# Altium schematic symbol library Converter_DCDC.SchLib: 544 symbols (part 6 of 6)
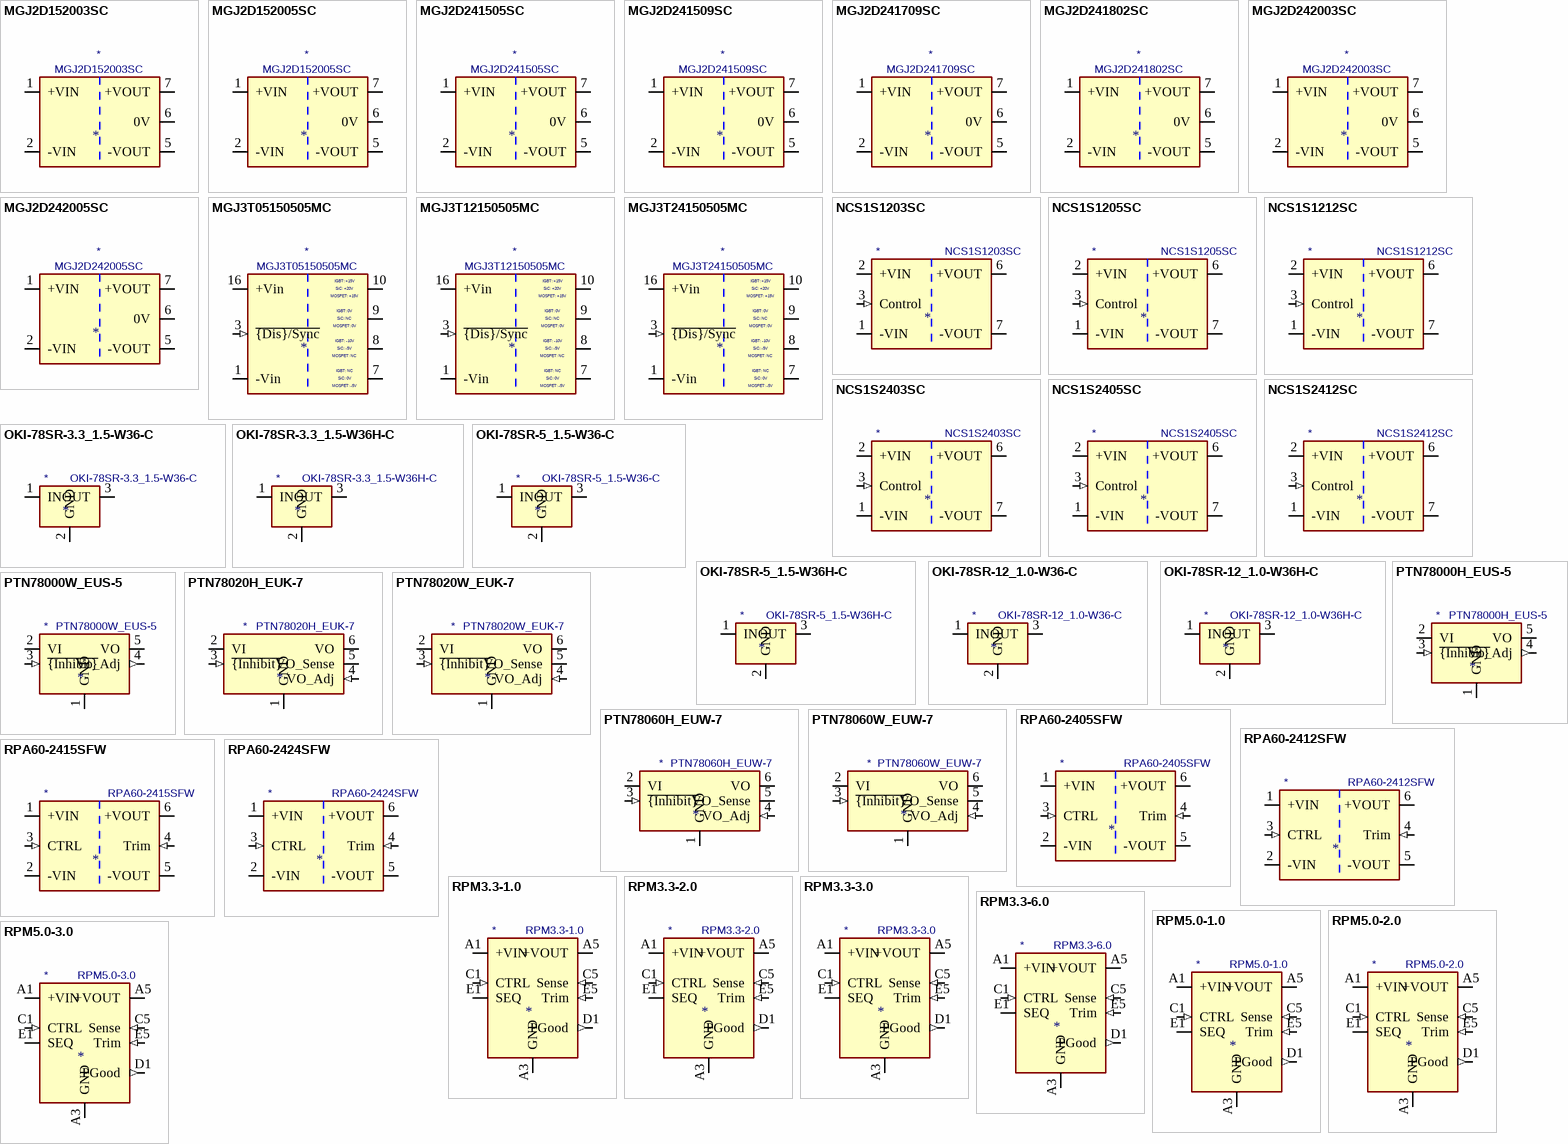
[diagram p18: symbols MGJ2D152003SC to RPM5.0-3.0]

## PTN78060H_EUW-7
designator *  value PTN78060H_EUW-7
ki_keywords: texas dc-dc converter step down buck; ki_description: 3A non-isolated switching regulator power module, 7-36V input voltage, 11.85-22V output voltage, EUW-7; ki_fp_filters: Texas*EUW*R?PDSS?T7*; Footprint: Module:Texas_EUW_R-PDSS-T7_THT; Supplier: https://www.ti.com/lit/ds/symlink/ptn78060w.pdf
footprint Texas_EUW_R-PDSS-T7_THT
pins: 1 GND (power), 2 VI (power), 3 ~{{Inhibit}} (in), 4 VO_Adj (in), 5 VO_Sense (power), 6 VO (power), 7 GND hidden

## PTN78060W_EUW-7
designator *  value PTN78060W_EUW-7
ki_keywords: texas dc-dc converter step down buck; ki_description: 3A non-isolated switching regulator power module, 7-36V input voltage, 2.5-12.6V output voltage, EUW-7; ki_fp_filters: Texas*EUW*R?PDSS?T7*; Footprint: Module:Texas_EUW_R-PDSS-T7_THT; Supplier: https://www.ti.com/lit/ds/symlink/ptn78060w.pdf
footprint Texas_EUW_R-PDSS-T7_THT
pins: 1 GND (power), 2 VI (power), 3 ~{{Inhibit}} (in), 4 VO_Adj (in), 5 VO_Sense (power), 6 VO (power), 7 GND hidden

## RPA60-2405SFW
designator *  value RPA60-2405SFW
ki_keywords: isolated isolation dc-dc converter step-down; ki_description: Isolated 60W 4:1 input DC/DC converter module, 9-36V input voltage, 5V output voltage, DIP; ki_fp_filters: Converter*DCDC*RECOM*RPA60?xxxxSFW*; Footprint: Converter_DCDC:Converter_DCDC_RECOM_RPA60-xxxxSFW; Supplier: https://recom-power.com/pdf/Powerline_DC-DC/RPA60-FW.pdf
footprint Converter_DCDC_RECOM_RPA60-xxxxSFW
pins: 1 +VIN (power), 2 -VIN (power), 3 CTRL (in), 4 Trim (in), 5 -VOUT (power), 6 +VOUT (power)

## RPA60-2412SFW
designator *  value RPA60-2412SFW
ki_keywords: isolated isolation dc-dc converter step-down; ki_description: Isolated 60W 4:1 input DC/DC converter module, 9-36V input voltage, 12V output voltage, DIP; ki_fp_filters: Converter*DCDC*RECOM*RPA60?xxxxSFW*; Footprint: Converter_DCDC:Converter_DCDC_RECOM_RPA60-xxxxSFW; Supplier: https://recom-power.com/pdf/Powerline_DC-DC/RPA60-FW.pdf
footprint Converter_DCDC_RECOM_RPA60-xxxxSFW
pins: 1 +VIN (power), 2 -VIN (power), 3 CTRL (in), 4 Trim (in), 5 -VOUT (power), 6 +VOUT (power)

## RPA60-2415SFW
designator *  value RPA60-2415SFW
ki_keywords: isolated isolation dc-dc converter step-down; ki_description: Isolated 60W 4:1 input DC/DC converter module, 9-36V input voltage, 15V output voltage, DIP; ki_fp_filters: Converter*DCDC*RECOM*RPA60?xxxxSFW*; Footprint: Converter_DCDC:Converter_DCDC_RECOM_RPA60-xxxxSFW; Supplier: https://recom-power.com/pdf/Powerline_DC-DC/RPA60-FW.pdf
footprint Converter_DCDC_RECOM_RPA60-xxxxSFW
pins: 1 +VIN (power), 2 -VIN (power), 3 CTRL (in), 4 Trim (in), 5 -VOUT (power), 6 +VOUT (power)

## RPA60-2424SFW
designator *  value RPA60-2424SFW
ki_keywords: isolated isolation dc-dc converter step-down; ki_description: Isolated 60W 4:1 input DC/DC converter module, 9-36V input voltage, 24V output voltage, DIP; ki_fp_filters: Converter*DCDC*RECOM*RPA60?xxxxSFW*; Footprint: Converter_DCDC:Converter_DCDC_RECOM_RPA60-xxxxSFW; Supplier: https://recom-power.com/pdf/Powerline_DC-DC/RPA60-FW.pdf
footprint Converter_DCDC_RECOM_RPA60-xxxxSFW
pins: 1 +VIN (power), 2 -VIN (power), 3 CTRL (in), 4 Trim (in), 5 -VOUT (power), 6 +VOUT (power)

## RPM3.3-1.0
designator *  value RPM3.3-1.0
ki_keywords: Recom dc-dc converter; ki_description: 1A non-isolated switching regulator power module, 3-17V input voltage, 3.3V output voltage, DOSA; ki_fp_filters: Converter*DCDC*RECOM*RPM*; Footprint: Converter_DCDC:Converter_DCDC_RECOM_RPMx.x-x.0; Supplier: https://www.recom-power.com/pdf/Innoline/RPM-1.0.pdf
footprint Converter_DCDC_RECOM_RPMx.x-x.0
pins: A1 +VIN (power), A2 +VIN hidden, A3 GND (power), A4 GND hidden, A5 +VOUT (power), B1 GND hidden, B2 GND hidden, B3 GND hidden, B4 GND hidden, B5 +VOUT hidden, C1 CTRL (in), C2 GND hidden, C3 GND hidden, C4 GND hidden, C5 Sense (in), D1 PGood (out), D2 GND hidden, D3 GND hidden, D4 GND hidden, D5 GND hidden, E1 SEQ, E2 NC (in) hidden, E3 GND hidden, E4 GND hidden, E5 Trim (in)

## RPM3.3-2.0
designator *  value RPM3.3-2.0
ki_keywords: Recom dc-dc converter; ki_description: 2A non-isolated switching regulator power module, 3-17V input voltage, 3.3V output voltage, DOSA; ki_fp_filters: Converter*DCDC*RECOM*RPM*; Footprint: Converter_DCDC:Converter_DCDC_RECOM_RPMx.x-x.0; Supplier: https://www.recom-power.com/pdf/Innoline/RPM-2.0.pdf
footprint Converter_DCDC_RECOM_RPMx.x-x.0
pins: A1 +VIN (power), A2 +VIN hidden, A3 GND (power), A4 GND hidden, A5 +VOUT (power), B1 GND hidden, B2 GND hidden, B3 GND hidden, B4 GND hidden, B5 +VOUT hidden, C1 CTRL (in), C2 GND hidden, C3 GND hidden, C4 GND hidden, C5 Sense (in), D1 PGood (out), D2 GND hidden, D3 GND hidden, D4 GND hidden, D5 GND hidden, E1 SEQ, E2 NC (in) hidden, E3 GND hidden, E4 GND hidden, E5 Trim (in)

## RPM3.3-3.0
designator *  value RPM3.3-3.0
ki_keywords: Recom dc-dc converter; ki_description: 3A non-isolated switching regulator power module, 3-17V input voltage, 3.3V output voltage, DOSA; ki_fp_filters: Converter*DCDC*RECOM*RPM*; Footprint: Converter_DCDC:Converter_DCDC_RECOM_RPMx.x-x.0; Supplier: https://www.recom-power.com/pdf/Innoline/RPM-3.0.pdf
footprint Converter_DCDC_RECOM_RPMx.x-x.0
pins: A1 +VIN (power), A2 +VIN hidden, A3 GND (power), A4 GND hidden, A5 +VOUT (power), B1 GND hidden, B2 GND hidden, B3 GND hidden, B4 GND hidden, B5 +VOUT hidden, C1 CTRL (in), C2 GND hidden, C3 GND hidden, C4 GND hidden, C5 Sense (in), D1 PGood (out), D2 GND hidden, D3 GND hidden, D4 GND hidden, D5 GND hidden, E1 SEQ, E2 NC (in) hidden, E3 GND hidden, E4 GND hidden, E5 Trim (in)

## RPM3.3-6.0
designator *  value RPM3.3-6.0
ki_keywords: Recom dc-dc converter; ki_description: 6A non-isolated switching regulator power module, 4-15V input voltage, 3.3V output voltage, DOSA; ki_fp_filters: Converter*DCDC*RECOM*RPM*; Footprint: Converter_DCDC:Converter_DCDC_RECOM_RPMx.x-x.0; Supplier: https://www.recom-power.com/pdf/Innoline/RPM-6.0.pdf
footprint Converter_DCDC_RECOM_RPMx.x-x.0
pins: A1 +VIN (power), A2 +VIN hidden, A3 GND (power), A4 GND hidden, A5 +VOUT (power), B1 GND hidden, B2 GND hidden, B3 GND hidden, B4 GND hidden, B5 +VOUT hidden, C1 CTRL (in), C2 GND hidden, C3 GND hidden, C4 GND hidden, C5 Sense (in), D1 PGood (out), D2 GND hidden, D3 GND hidden, D4 GND hidden, D5 GND hidden, E1 SEQ, E2 NC (in) hidden, E3 GND hidden, E4 GND hidden, E5 Trim (in)

## RPM5.0-1.0
designator *  value RPM5.0-1.0
ki_keywords: Recom dc-dc converter; ki_description: 1A non-isolated switching regulator power module, 3-17V input voltage, 5.0V output voltage, DOSA; ki_fp_filters: Converter*DCDC*RECOM*RPM*; Footprint: Converter_DCDC:Converter_DCDC_RECOM_RPMx.x-x.0; Supplier: https://www.recom-power.com/pdf/Innoline/RPM-1.0.pdf
footprint Converter_DCDC_RECOM_RPMx.x-x.0
pins: A1 +VIN (power), A2 +VIN hidden, A3 GND (power), A4 GND hidden, A5 +VOUT (power), B1 GND hidden, B2 GND hidden, B3 GND hidden, B4 GND hidden, B5 +VOUT hidden, C1 CTRL (in), C2 GND hidden, C3 GND hidden, C4 GND hidden, C5 Sense (in), D1 PGood (out), D2 GND hidden, D3 GND hidden, D4 GND hidden, D5 GND hidden, E1 SEQ, E2 NC (in) hidden, E3 GND hidden, E4 GND hidden, E5 Trim (in)

## RPM5.0-2.0
designator *  value RPM5.0-2.0
ki_keywords: Recom dc-dc converter; ki_description: 2A non-isolated switching regulator power module, 3-17V input voltage, 5.0V output voltage, DOSA; ki_fp_filters: Converter*DCDC*RECOM*RPM*; Footprint: Converter_DCDC:Converter_DCDC_RECOM_RPMx.x-x.0; Supplier: https://www.recom-power.com/pdf/Innoline/RPM-2.0.pdf
footprint Converter_DCDC_RECOM_RPMx.x-x.0
pins: A1 +VIN (power), A2 +VIN hidden, A3 GND (power), A4 GND hidden, A5 +VOUT (power), B1 GND hidden, B2 GND hidden, B3 GND hidden, B4 GND hidden, B5 +VOUT hidden, C1 CTRL (in), C2 GND hidden, C3 GND hidden, C4 GND hidden, C5 Sense (in), D1 PGood (out), D2 GND hidden, D3 GND hidden, D4 GND hidden, D5 GND hidden, E1 SEQ, E2 NC (in) hidden, E3 GND hidden, E4 GND hidden, E5 Trim (in)

## RPM5.0-3.0
designator *  value RPM5.0-3.0
ki_keywords: Recom dc-dc converter; ki_description: 3A non-isolated switching regulator power module, 3-17V input voltage, 5.0V output voltage, DOSA; ki_fp_filters: Converter*DCDC*RECOM*RPM*; Footprint: Converter_DCDC:Converter_DCDC_RECOM_RPMx.x-x.0; Supplier: https://www.recom-power.com/pdf/Innoline/RPM-3.0.pdf
footprint Converter_DCDC_RECOM_RPMx.x-x.0
pins: A1 +VIN (power), A2 +VIN hidden, A3 GND (power), A4 GND hidden, A5 +VOUT (power), B1 GND hidden, B2 GND hidden, B3 GND hidden, B4 GND hidden, B5 +VOUT hidden, C1 CTRL (in), C2 GND hidden, C3 GND hidden, C4 GND hidden, C5 Sense (in), D1 PGood (out), D2 GND hidden, D3 GND hidden, D4 GND hidden, D5 GND hidden, E1 SEQ, E2 NC (in) hidden, E3 GND hidden, E4 GND hidden, E5 Trim (in)

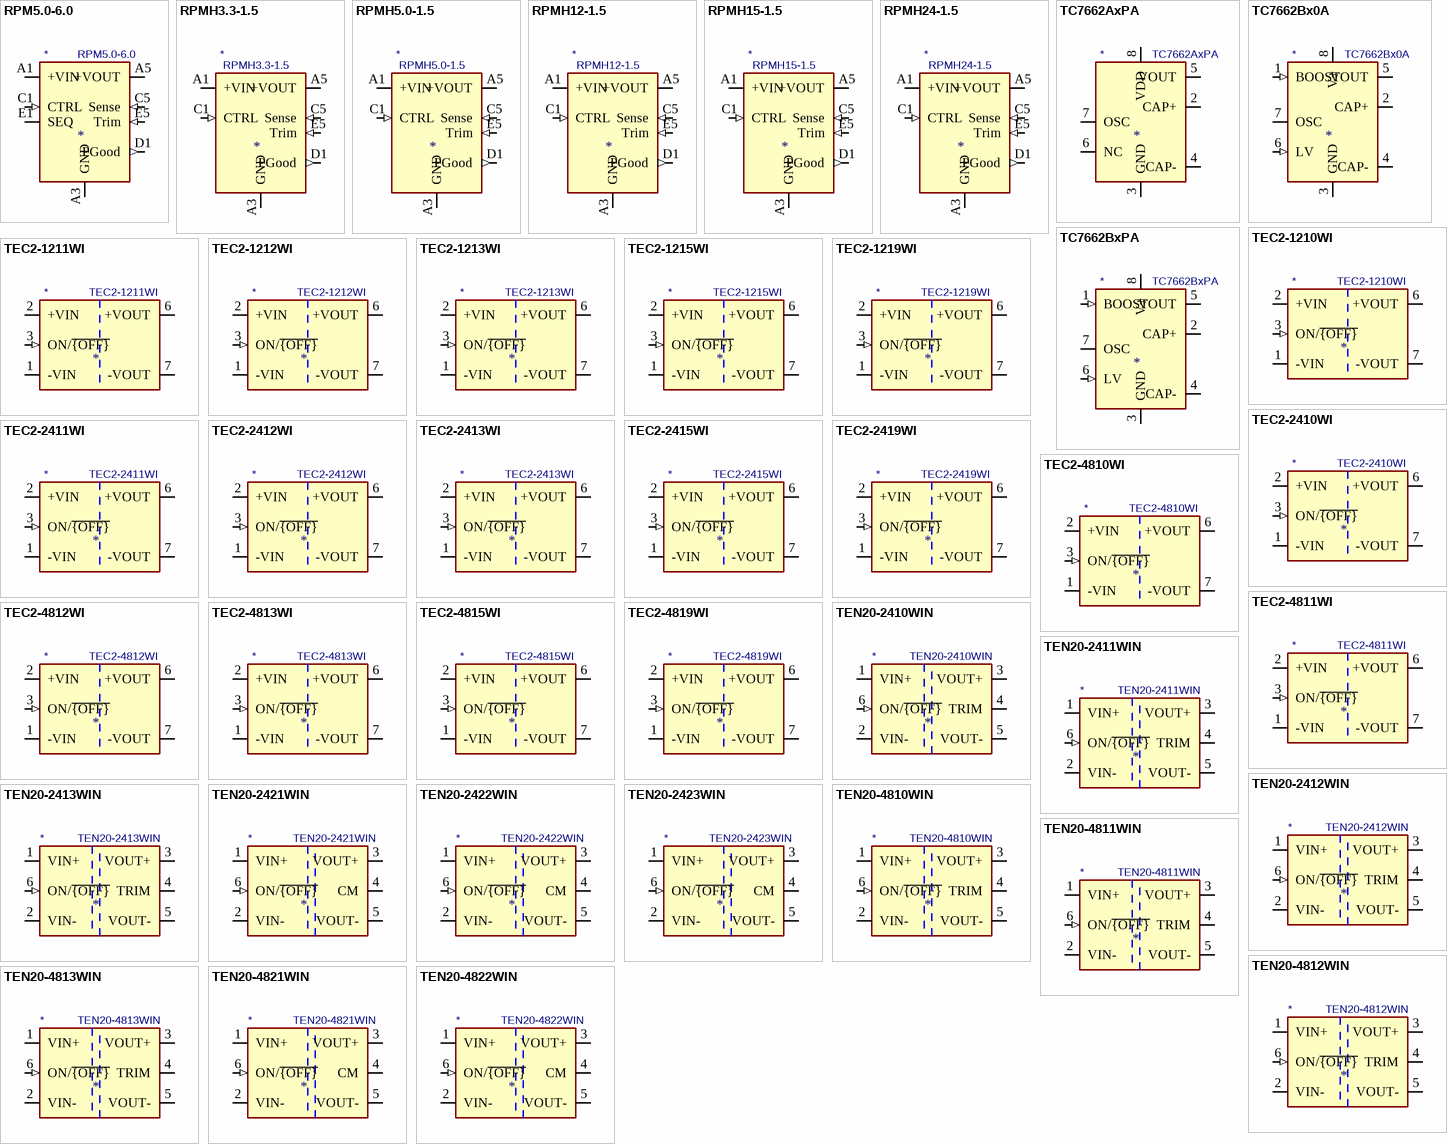
[diagram p12: symbols RPM5.0-6.0 to TEN20-4822WIN]

## RPM5.0-6.0
designator *  value RPM5.0-6.0
ki_keywords: Recom dc-dc converter; ki_description: 6A non-isolated switching regulator power module, 4-15V input voltage, 5.0V output voltage, DOSA; ki_fp_filters: Converter*DCDC*RECOM*RPM*; Footprint: Converter_DCDC:Converter_DCDC_RECOM_RPMx.x-x.0; Supplier: https://www.recom-power.com/pdf/Innoline/RPM-6.0.pdf
footprint Converter_DCDC_RECOM_RPMx.x-x.0
pins: A1 +VIN (power), A2 +VIN hidden, A3 GND (power), A4 GND hidden, A5 +VOUT (power), B1 GND hidden, B2 GND hidden, B3 GND hidden, B4 GND hidden, B5 +VOUT hidden, C1 CTRL (in), C2 GND hidden, C3 GND hidden, C4 GND hidden, C5 Sense (in), D1 PGood (out), D2 GND hidden, D3 GND hidden, D4 GND hidden, D5 GND hidden, E1 SEQ, E2 NC (in) hidden, E3 GND hidden, E4 GND hidden, E5 Trim (in)

## RPMH3.3-1.5
designator *  value RPMH3.3-1.5
ki_keywords: Recom DC-DC converter; ki_description: 1.5A non-isolated switching regulator power module, 5-60V input voltage, 3.3V output voltage; ki_fp_filters: Converter*DCDC*RECOM*RPM*; Footprint: Converter_DCDC:Converter_DCDC_RECOM_RPMx.x-x.0; Supplier: https://recom-power.com/pdf/Innoline/RPMH-1.5.pdf
footprint Converter_DCDC_RECOM_RPMx.x-x.0
pins: A1 +VIN (power), A2 +VIN hidden, A3 GND (power), A4 GND hidden, A5 +VOUT (power), B1 GND hidden, B2 GND hidden, B3 GND hidden, B4 GND hidden, B5 +VOUT hidden, C1 CTRL (in), C2 GND hidden, C3 GND hidden, C4 GND hidden, C5 Sense (in), D1 PGood (out), D2 GND hidden, D3 GND hidden, D4 GND hidden, D5 GND hidden, E1 NC (in) hidden, E2 NC (in) hidden, E3 GND hidden, E4 GND hidden, E5 Trim (in)

## RPMH5.0-1.5
designator *  value RPMH5.0-1.5
ki_keywords: Recom DC-DC converter; ki_description: 1.5A non-isolated switching regulator power module, 7-60V input voltage, 5V output voltage; ki_fp_filters: Converter*DCDC*RECOM*RPM*; Footprint: Converter_DCDC:Converter_DCDC_RECOM_RPMx.x-x.0; Supplier: https://recom-power.com/pdf/Innoline/RPMH-1.5.pdf
footprint Converter_DCDC_RECOM_RPMx.x-x.0
pins: A1 +VIN (power), A2 +VIN hidden, A3 GND (power), A4 GND hidden, A5 +VOUT (power), B1 GND hidden, B2 GND hidden, B3 GND hidden, B4 GND hidden, B5 +VOUT hidden, C1 CTRL (in), C2 GND hidden, C3 GND hidden, C4 GND hidden, C5 Sense (in), D1 PGood (out), D2 GND hidden, D3 GND hidden, D4 GND hidden, D5 GND hidden, E1 NC (in) hidden, E2 NC (in) hidden, E3 GND hidden, E4 GND hidden, E5 Trim (in)

## RPMH12-1.5
designator *  value RPMH12-1.5
ki_keywords: Recom DC-DC converter; ki_description: 1.5A non-isolated switching regulator power module, 14-60V input voltage, 12V output voltage; ki_fp_filters: Converter*DCDC*RECOM*RPM*; Footprint: Converter_DCDC:Converter_DCDC_RECOM_RPMx.x-x.0; Supplier: https://recom-power.com/pdf/Innoline/RPMH-1.5.pdf
footprint Converter_DCDC_RECOM_RPMx.x-x.0
pins: A1 +VIN (power), A2 +VIN hidden, A3 GND (power), A4 GND hidden, A5 +VOUT (power), B1 GND hidden, B2 GND hidden, B3 GND hidden, B4 GND hidden, B5 +VOUT hidden, C1 CTRL (in), C2 GND hidden, C3 GND hidden, C4 GND hidden, C5 Sense (in), D1 PGood (out), D2 GND hidden, D3 GND hidden, D4 GND hidden, D5 GND hidden, E1 NC (in) hidden, E2 NC (in) hidden, E3 GND hidden, E4 GND hidden, E5 Trim (in)

## RPMH15-1.5
designator *  value RPMH15-1.5
ki_keywords: Recom DC-DC converter; ki_description: 1.5A non-isolated switching regulator power module, 17-60V input voltage, 15V output voltage; ki_fp_filters: Converter*DCDC*RECOM*RPM*; Footprint: Converter_DCDC:Converter_DCDC_RECOM_RPMx.x-x.0; Supplier: https://recom-power.com/pdf/Innoline/RPMH-1.5.pdf
footprint Converter_DCDC_RECOM_RPMx.x-x.0
pins: A1 +VIN (power), A2 +VIN hidden, A3 GND (power), A4 GND hidden, A5 +VOUT (power), B1 GND hidden, B2 GND hidden, B3 GND hidden, B4 GND hidden, B5 +VOUT hidden, C1 CTRL (in), C2 GND hidden, C3 GND hidden, C4 GND hidden, C5 Sense (in), D1 PGood (out), D2 GND hidden, D3 GND hidden, D4 GND hidden, D5 GND hidden, E1 NC (in) hidden, E2 NC (in) hidden, E3 GND hidden, E4 GND hidden, E5 Trim (in)

## RPMH24-1.5
designator *  value RPMH24-1.5
ki_keywords: Recom DC-DC converter; ki_description: 1.5A non-isolated switching regulator power module, 26-60V input voltage, 24V output voltage; ki_fp_filters: Converter*DCDC*RECOM*RPM*; Footprint: Converter_DCDC:Converter_DCDC_RECOM_RPMx.x-x.0; Supplier: https://recom-power.com/pdf/Innoline/RPMH-1.5.pdf
footprint Converter_DCDC_RECOM_RPMx.x-x.0
pins: A1 +VIN (power), A2 +VIN hidden, A3 GND (power), A4 GND hidden, A5 +VOUT (power), B1 GND hidden, B2 GND hidden, B3 GND hidden, B4 GND hidden, B5 +VOUT hidden, C1 CTRL (in), C2 GND hidden, C3 GND hidden, C4 GND hidden, C5 Sense (in), D1 PGood (out), D2 GND hidden, D3 GND hidden, D4 GND hidden, D5 GND hidden, E1 NC (in) hidden, E2 NC (in) hidden, E3 GND hidden, E4 GND hidden, E5 Trim (in)

## TC7662AxPA
designator *  value TC7662AxPA
ki_keywords: charge pump DC-to-DC converter; ki_description: Charge Pump DC-to-DC Converter, 3 - 18V, 40mA, DIP-8; ki_fp_filters: DIP*W7.62mm*; Footprint: Package_DIP:DIP-8_W7.62mm; Supplier: http://ww1.microchip.com/downloads/en/DeviceDoc/21468B.pdf
footprint DIP-8_W7.62mm
pins: 1 NC (in) hidden, 2 CAP+, 3 GND (power), 4 CAP-, 5 VOUT (power), 6 NC, 7 OSC, 8 VDD (power)

## TC7662Bx0A
designator *  value TC7662Bx0A
ki_keywords: charge pump DC-to-DC converter; ki_description: Charge Pump DC-to-DC Converter, 1.5 - 15V, 100mA, SOIC-8; ki_fp_filters: SOIC*3.9x4.9mm*P1.27mm*; Footprint: Package_SO:SOIC-8_3.9x4.9mm_P1.27mm; Supplier: http://ww1.microchip.com/downloads/en/DeviceDoc/21469a.pdf
footprint SOIC-8_3.9x4.9mm_P1.27mm
pins: 1 BOOST (in), 2 CAP+, 3 GND (power), 4 CAP-, 5 VOUT (power), 6 LV (in), 7 OSC, 8 V+ (power)

## TC7662BxPA
designator *  value TC7662BxPA
ki_keywords: charge pump DC-to-DC converter; ki_description: Charge Pump DC-to-DC Converter, 1.5 - 15V, 100mA, DIP-8; ki_fp_filters: DIP*W7.62mm*; Footprint: Package_DIP:DIP-8_W7.62mm; Supplier: http://ww1.microchip.com/downloads/en/DeviceDoc/21469a.pdf
footprint DIP-8_W7.62mm
pins: 1 BOOST (in), 2 CAP+, 3 GND (power), 4 CAP-, 5 VOUT (power), 6 LV (in), 7 OSC, 8 V+ (power)

## TEC2-1210WI
designator *  value TEC2-1210WI
ki_keywords: Traco isolated isolation dc-dc converter transformer; ki_description: 500mA Regulated 2W DC/DC converter with 1.5kV isolation, 4.5V-18V input, 3.3V fixed Output Voltage, SIP-8; ki_fp_filters: Converter*DCDC*TRACO*TMR*xxxx*; Footprint: Converter_DCDC:Converter_DCDC_TRACO_TMR-xxxx_THT; Supplier: https://www.tracopower.com/products/tec2wi.pdf
footprint Converter_DCDC_TRACO_TMR-xxxx_THT
pins: 1 -VIN (power), 2 +VIN (power), 3 ON/~{{OFF}} (in), 5 NC (in) hidden, 6 +VOUT (power), 7 -VOUT (power), 8 NC (in) hidden

## TEC2-1211WI
designator *  value TEC2-1211WI
ki_keywords: Traco isolated isolation dc-dc converter transformer; ki_description: 400mA Regulated 2W DC/DC converter with 1.5kV isolation, 4.5V-18V input, 5V fixed Output Voltage, SIP-8; ki_fp_filters: Converter*DCDC*TRACO*TMR*xxxx*; Footprint: Converter_DCDC:Converter_DCDC_TRACO_TMR-xxxx_THT; Supplier: https://www.tracopower.com/products/tec2wi.pdf
footprint Converter_DCDC_TRACO_TMR-xxxx_THT
pins: 1 -VIN (power), 2 +VIN (power), 3 ON/~{{OFF}} (in), 5 NC (in) hidden, 6 +VOUT (power), 7 -VOUT (power), 8 NC (in) hidden

## TEC2-1212WI
designator *  value TEC2-1212WI
ki_keywords: Traco isolated isolation dc-dc converter transformer; ki_description: 167mA Regulated 2W DC/DC converter with 1.5kV isolation, 4.5V-18V input, 12V fixed Output Voltage, SIP-8; ki_fp_filters: Converter*DCDC*TRACO*TMR*xxxx*; Footprint: Converter_DCDC:Converter_DCDC_TRACO_TMR-xxxx_THT; Supplier: https://www.tracopower.com/products/tec2wi.pdf
footprint Converter_DCDC_TRACO_TMR-xxxx_THT
pins: 1 -VIN (power), 2 +VIN (power), 3 ON/~{{OFF}} (in), 5 NC (in) hidden, 6 +VOUT (power), 7 -VOUT (power), 8 NC (in) hidden

## TEC2-1213WI
designator *  value TEC2-1213WI
ki_keywords: Traco isolated isolation dc-dc converter transformer; ki_description: 134mA Regulated 2W DC/DC converter with 1.5kV isolation, 4.5V-18V input, 15V fixed Output Voltage, SIP-8; ki_fp_filters: Converter*DCDC*TRACO*TMR*xxxx*; Footprint: Converter_DCDC:Converter_DCDC_TRACO_TMR-xxxx_THT; Supplier: https://www.tracopower.com/products/tec2wi.pdf
footprint Converter_DCDC_TRACO_TMR-xxxx_THT
pins: 1 -VIN (power), 2 +VIN (power), 3 ON/~{{OFF}} (in), 5 NC (in) hidden, 6 +VOUT (power), 7 -VOUT (power), 8 NC (in) hidden

## TEC2-1215WI
designator *  value TEC2-1215WI
ki_keywords: Traco isolated isolation dc-dc converter transformer; ki_description: 83mA Regulated 2W DC/DC converter with 1.5kV isolation, 4.5V-18V input, 24V fixed Output Voltage, SIP-8; ki_fp_filters: Converter*DCDC*TRACO*TMR*xxxx*; Footprint: Converter_DCDC:Converter_DCDC_TRACO_TMR-xxxx_THT; Supplier: https://www.tracopower.com/products/tec2wi.pdf
footprint Converter_DCDC_TRACO_TMR-xxxx_THT
pins: 1 -VIN (power), 2 +VIN (power), 3 ON/~{{OFF}} (in), 5 NC (in) hidden, 6 +VOUT (power), 7 -VOUT (power), 8 NC (in) hidden

## TEC2-1219WI
designator *  value TEC2-1219WI
ki_keywords: Traco isolated isolation dc-dc converter transformer; ki_description: 222mA Regulated 2W DC/DC converter with 1.5kV isolation, 4.5V-18V input, 9V fixed Output Voltage, SIP-8; ki_fp_filters: Converter*DCDC*TRACO*TMR*xxxx*; Footprint: Converter_DCDC:Converter_DCDC_TRACO_TMR-xxxx_THT; Supplier: https://www.tracopower.com/products/tec2wi.pdf
footprint Converter_DCDC_TRACO_TMR-xxxx_THT
pins: 1 -VIN (power), 2 +VIN (power), 3 ON/~{{OFF}} (in), 5 NC (in) hidden, 6 +VOUT (power), 7 -VOUT (power), 8 NC (in) hidden

## TEC2-2410WI
designator *  value TEC2-2410WI
ki_keywords: Traco isolated isolation dc-dc converter transformer; ki_description: 500mA Regulated 2W DC/DC converter with 1.5kV isolation, 9V-36V input, 3.3V fixed Output Voltage, SIP-8; ki_fp_filters: Converter*DCDC*TRACO*TMR*xxxx*; Footprint: Converter_DCDC:Converter_DCDC_TRACO_TMR-xxxx_THT; Supplier: https://www.tracopower.com/products/tec2wi.pdf
footprint Converter_DCDC_TRACO_TMR-xxxx_THT
pins: 1 -VIN (power), 2 +VIN (power), 3 ON/~{{OFF}} (in), 5 NC (in) hidden, 6 +VOUT (power), 7 -VOUT (power), 8 NC (in) hidden

## TEC2-2411WI
designator *  value TEC2-2411WI
ki_keywords: Traco isolated isolation dc-dc converter transformer; ki_description: 400mA Regulated 2W DC/DC converter with 1.5kV isolation, 9V-36V input, 5V fixed Output Voltage, SIP-8; ki_fp_filters: Converter*DCDC*TRACO*TMR*xxxx*; Footprint: Converter_DCDC:Converter_DCDC_TRACO_TMR-xxxx_THT; Supplier: https://www.tracopower.com/products/tec2wi.pdf
footprint Converter_DCDC_TRACO_TMR-xxxx_THT
pins: 1 -VIN (power), 2 +VIN (power), 3 ON/~{{OFF}} (in), 5 NC (in) hidden, 6 +VOUT (power), 7 -VOUT (power), 8 NC (in) hidden

## TEC2-2412WI
designator *  value TEC2-2412WI
ki_keywords: Traco isolated isolation dc-dc converter transformer; ki_description: 167mA Regulated 2W DC/DC converter with 1.5kV isolation, 9V-36V input, 12V fixed Output Voltage, SIP-8; ki_fp_filters: Converter*DCDC*TRACO*TMR*xxxx*; Footprint: Converter_DCDC:Converter_DCDC_TRACO_TMR-xxxx_THT; Supplier: https://www.tracopower.com/products/tec2wi.pdf
footprint Converter_DCDC_TRACO_TMR-xxxx_THT
pins: 1 -VIN (power), 2 +VIN (power), 3 ON/~{{OFF}} (in), 5 NC (in) hidden, 6 +VOUT (power), 7 -VOUT (power), 8 NC (in) hidden

## TEC2-2413WI
designator *  value TEC2-2413WI
ki_keywords: Traco isolated isolation dc-dc converter transformer; ki_description: 134mA Regulated 2W DC/DC converter with 1.5kV isolation, 9V-36V input, 15V fixed Output Voltage, SIP-8; ki_fp_filters: Converter*DCDC*TRACO*TMR*xxxx*; Footprint: Converter_DCDC:Converter_DCDC_TRACO_TMR-xxxx_THT; Supplier: https://www.tracopower.com/products/tec2wi.pdf
footprint Converter_DCDC_TRACO_TMR-xxxx_THT
pins: 1 -VIN (power), 2 +VIN (power), 3 ON/~{{OFF}} (in), 5 NC (in) hidden, 6 +VOUT (power), 7 -VOUT (power), 8 NC (in) hidden

## TEC2-2415WI
designator *  value TEC2-2415WI
ki_keywords: Traco isolated isolation dc-dc converter transformer; ki_description: 83mA Regulated 2W DC/DC converter with 1.5kV isolation, 9V-36V input, 24V fixed Output Voltage, SIP-8; ki_fp_filters: Converter*DCDC*TRACO*TMR*xxxx*; Footprint: Converter_DCDC:Converter_DCDC_TRACO_TMR-xxxx_THT; Supplier: https://www.tracopower.com/products/tec2wi.pdf
footprint Converter_DCDC_TRACO_TMR-xxxx_THT
pins: 1 -VIN (power), 2 +VIN (power), 3 ON/~{{OFF}} (in), 5 NC (in) hidden, 6 +VOUT (power), 7 -VOUT (power), 8 NC (in) hidden

## TEC2-2419WI
designator *  value TEC2-2419WI
ki_keywords: Traco isolated isolation dc-dc converter transformer; ki_description: 222mA Regulated 2W DC/DC converter with 1.5kV isolation, 9V-36V input, 9V fixed Output Voltage, SIP-8; ki_fp_filters: Converter*DCDC*TRACO*TMR*xxxx*; Footprint: Converter_DCDC:Converter_DCDC_TRACO_TMR-xxxx_THT; Supplier: https://www.tracopower.com/products/tec2wi.pdf
footprint Converter_DCDC_TRACO_TMR-xxxx_THT
pins: 1 -VIN (power), 2 +VIN (power), 3 ON/~{{OFF}} (in), 5 NC (in) hidden, 6 +VOUT (power), 7 -VOUT (power), 8 NC (in) hidden

## TEC2-4810WI
designator *  value TEC2-4810WI
ki_keywords: Traco isolated isolation dc-dc converter transformer; ki_description: 500mA Regulated 2W DC/DC converter with 1.5kV isolation, 18V-75V input, 3.3V fixed Output Voltage, SIP-8; ki_fp_filters: Converter*DCDC*TRACO*TMR*xxxx*; Footprint: Converter_DCDC:Converter_DCDC_TRACO_TMR-xxxx_THT; Supplier: https://www.tracopower.com/products/tec2wi.pdf
footprint Converter_DCDC_TRACO_TMR-xxxx_THT
pins: 1 -VIN (power), 2 +VIN (power), 3 ON/~{{OFF}} (in), 5 NC (in) hidden, 6 +VOUT (power), 7 -VOUT (power), 8 NC (in) hidden

## TEC2-4811WI
designator *  value TEC2-4811WI
ki_keywords: Traco isolated isolation dc-dc converter transformer; ki_description: 400mA Regulated 2W DC/DC converter with 1.5kV isolation, 18V-75V input, 5V fixed Output Voltage, SIP-8; ki_fp_filters: Converter*DCDC*TRACO*TMR*xxxx*; Footprint: Converter_DCDC:Converter_DCDC_TRACO_TMR-xxxx_THT; Supplier: https://www.tracopower.com/products/tec2wi.pdf
footprint Converter_DCDC_TRACO_TMR-xxxx_THT
pins: 1 -VIN (power), 2 +VIN (power), 3 ON/~{{OFF}} (in), 5 NC (in) hidden, 6 +VOUT (power), 7 -VOUT (power), 8 NC (in) hidden

## TEC2-4812WI
designator *  value TEC2-4812WI
ki_keywords: Traco isolated isolation dc-dc converter transformer; ki_description: 167mA Regulated 2W DC/DC converter with 1.5kV isolation, 18V-75V input, 12V fixed Output Voltage, SIP-8; ki_fp_filters: Converter*DCDC*TRACO*TMR*xxxx*; Footprint: Converter_DCDC:Converter_DCDC_TRACO_TMR-xxxx_THT; Supplier: https://www.tracopower.com/products/tec2wi.pdf
footprint Converter_DCDC_TRACO_TMR-xxxx_THT
pins: 1 -VIN (power), 2 +VIN (power), 3 ON/~{{OFF}} (in), 5 NC (in) hidden, 6 +VOUT (power), 7 -VOUT (power), 8 NC (in) hidden

## TEC2-4813WI
designator *  value TEC2-4813WI
ki_keywords: Traco isolated isolation dc-dc converter transformer; ki_description: 134mA Regulated 2W DC/DC converter with 1.5kV isolation, 18V-75V input, 15V fixed Output Voltage, SIP-8; ki_fp_filters: Converter*DCDC*TRACO*TMR*xxxx*; Footprint: Converter_DCDC:Converter_DCDC_TRACO_TMR-xxxx_THT; Supplier: https://www.tracopower.com/products/tec2wi.pdf
footprint Converter_DCDC_TRACO_TMR-xxxx_THT
pins: 1 -VIN (power), 2 +VIN (power), 3 ON/~{{OFF}} (in), 5 NC (in) hidden, 6 +VOUT (power), 7 -VOUT (power), 8 NC (in) hidden

## TEC2-4815WI
designator *  value TEC2-4815WI
ki_keywords: Traco isolated isolation dc-dc converter transformer; ki_description: 83mA Regulated 2W DC/DC converter with 1.5kV isolation, 18V-75V input, 24V fixed Output Voltage, SIP-8; ki_fp_filters: Converter*DCDC*TRACO*TMR*xxxx*; Footprint: Converter_DCDC:Converter_DCDC_TRACO_TMR-xxxx_THT; Supplier: https://www.tracopower.com/products/tec2wi.pdf
footprint Converter_DCDC_TRACO_TMR-xxxx_THT
pins: 1 -VIN (power), 2 +VIN (power), 3 ON/~{{OFF}} (in), 5 NC (in) hidden, 6 +VOUT (power), 7 -VOUT (power), 8 NC (in) hidden

## TEC2-4819WI
designator *  value TEC2-4819WI
ki_keywords: Traco isolated isolation dc-dc converter transformer; ki_description: 222mA Regulated 2W DC/DC converter with 1.5kV isolation, 18V-75V input, 9V fixed Output Voltage, SIP-8; ki_fp_filters: Converter*DCDC*TRACO*TMR*xxxx*; Footprint: Converter_DCDC:Converter_DCDC_TRACO_TMR-xxxx_THT; Supplier: https://www.tracopower.com/products/tec2wi.pdf
footprint Converter_DCDC_TRACO_TMR-xxxx_THT
pins: 1 -VIN (power), 2 +VIN (power), 3 ON/~{{OFF}} (in), 5 NC (in) hidden, 6 +VOUT (power), 7 -VOUT (power), 8 NC (in) hidden

## TEN20-2410WIN
designator *  value TEN20-2410WIN
ki_keywords: Traco isolated DC/DC Converter module; ki_description: 5.5A Isolated DC/DC Converter Module, fixed 3.3V Output Voltage, 9-36V Input Voltage; ki_fp_filters: *TRACO*TEN20*xxxx*; Footprint: Converter_DCDC:Converter_DCDC_TRACO_TEN20-xxxx_THT; Supplier: http://www.tracopower.com/products/ten20win.pdf
footprint Converter_DCDC_TRACO_TEN20-xxxx_THT
pins: 1 VIN+ (power), 2 VIN- (power), 3 VOUT+ (power), 4 TRIM, 5 VOUT- (power), 6 ON/~{{OFF}} (in)

## TEN20-2411WIN
designator *  value TEN20-2411WIN
ki_keywords: Traco isolated DC/DC Converter module; ki_description: 4A Isolated DC/DC Converter Module, fixed 5V Output Voltage, 9-36V Input Voltage; ki_fp_filters: *TRACO*TEN20*xxxx*; Footprint: Converter_DCDC:Converter_DCDC_TRACO_TEN20-xxxx_THT; Supplier: http://www.tracopower.com/products/ten20win.pdf
footprint Converter_DCDC_TRACO_TEN20-xxxx_THT
pins: 1 VIN+ (power), 2 VIN- (power), 3 VOUT+ (power), 4 TRIM, 5 VOUT- (power), 6 ON/~{{OFF}} (in)

## TEN20-2412WIN
designator *  value TEN20-2412WIN
ki_keywords: Traco isolated DC/DC Converter module; ki_description: 1.67A Isolated DC/DC Converter Module, fixed 12V Output Voltage, 9-36V Input Voltage; ki_fp_filters: *TRACO*TEN20*xxxx*; Footprint: Converter_DCDC:Converter_DCDC_TRACO_TEN20-xxxx_THT; Supplier: http://www.tracopower.com/products/ten20win.pdf
footprint Converter_DCDC_TRACO_TEN20-xxxx_THT
pins: 1 VIN+ (power), 2 VIN- (power), 3 VOUT+ (power), 4 TRIM, 5 VOUT- (power), 6 ON/~{{OFF}} (in)

## TEN20-2413WIN
designator *  value TEN20-2413WIN
ki_keywords: Traco isolated DC/DC Converter module; ki_description: 1.33A Isolated DC/DC Converter Module, fixed 15V Output Voltage, 9-36V Input Voltage; ki_fp_filters: *TRACO*TEN20*xxxx*; Footprint: Converter_DCDC:Converter_DCDC_TRACO_TEN20-xxxx_THT; Supplier: http://www.tracopower.com/products/ten20win.pdf
footprint Converter_DCDC_TRACO_TEN20-xxxx_THT
pins: 1 VIN+ (power), 2 VIN- (power), 3 VOUT+ (power), 4 TRIM, 5 VOUT- (power), 6 ON/~{{OFF}} (in)

## TEN20-2421WIN
designator *  value TEN20-2421WIN
ki_keywords: Traco isolated DC/DC Converter module; ki_description: 2A Isolated DC/DC Dual Supply Converter Module, fixed +-5V Output Voltage, 9-36V Input Voltage; ki_fp_filters: *TRACO*TEN20*xxxx*; Footprint: Converter_DCDC:Converter_DCDC_TRACO_TEN20-xxxx_THT; Supplier: http://www.tracopower.com/products/ten20win.pdf
footprint Converter_DCDC_TRACO_TEN20-xxxx_THT
pins: 1 VIN+ (power), 2 VIN- (power), 3 VOUT+ (power), 4 CM (power), 5 VOUT- (power), 6 ON/~{{OFF}} (in)

## TEN20-2422WIN
designator *  value TEN20-2422WIN
ki_keywords: Traco isolated DC/DC Converter module; ki_description: 835mA Isolated DC/DC Dual Supply Converter Module, fixed +-12V Output Voltage, 9-36V Input Voltage; ki_fp_filters: *TRACO*TEN20*xxxx*; Footprint: Converter_DCDC:Converter_DCDC_TRACO_TEN20-xxxx_THT; Supplier: http://www.tracopower.com/products/ten20win.pdf
footprint Converter_DCDC_TRACO_TEN20-xxxx_THT
pins: 1 VIN+ (power), 2 VIN- (power), 3 VOUT+ (power), 4 CM (power), 5 VOUT- (power), 6 ON/~{{OFF}} (in)

## TEN20-2423WIN
designator *  value TEN20-2423WIN
ki_keywords: Traco isolated DC/DC Converter module; ki_description: 665mA Isolated DC/DC Dual Supply Converter Module, fixed +-15V Output Voltage, 9-36V Input Voltage; ki_fp_filters: *TRACO*TEN20*xxxx*; Footprint: Converter_DCDC:Converter_DCDC_TRACO_TEN20-xxxx_THT; Supplier: http://www.tracopower.com/products/ten20win.pdf
footprint Converter_DCDC_TRACO_TEN20-xxxx_THT
pins: 1 VIN+ (power), 2 VIN- (power), 3 VOUT+ (power), 4 CM (power), 5 VOUT- (power), 6 ON/~{{OFF}} (in)

## TEN20-4810WIN
designator *  value TEN20-4810WIN
ki_keywords: Traco isolated DC/DC Converter module; ki_description: 5.5A Isolated DC/DC Converter Module, fixed 3.3V Output Voltage, 18-75V Input Voltage; ki_fp_filters: *TRACO*TEN20*xxxx*; Footprint: Converter_DCDC:Converter_DCDC_TRACO_TEN20-xxxx_THT; Supplier: http://www.tracopower.com/products/ten20win.pdf
footprint Converter_DCDC_TRACO_TEN20-xxxx_THT
pins: 1 VIN+ (power), 2 VIN- (power), 3 VOUT+ (power), 4 TRIM, 5 VOUT- (power), 6 ON/~{{OFF}} (in)

## TEN20-4811WIN
designator *  value TEN20-4811WIN
ki_keywords: Traco isolated DC/DC Converter module; ki_description: 4A Isolated DC/DC Converter Module, fixed 5V Output Voltage, 18-75V Input Voltage; ki_fp_filters: *TRACO*TEN20*xxxx*; Footprint: Converter_DCDC:Converter_DCDC_TRACO_TEN20-xxxx_THT; Supplier: http://www.tracopower.com/products/ten20win.pdf
footprint Converter_DCDC_TRACO_TEN20-xxxx_THT
pins: 1 VIN+ (power), 2 VIN- (power), 3 VOUT+ (power), 4 TRIM, 5 VOUT- (power), 6 ON/~{{OFF}} (in)

## TEN20-4812WIN
designator *  value TEN20-4812WIN
ki_keywords: Traco isolated DC/DC Converter module; ki_description: 1.67A Isolated DC/DC Converter Module, fixed 12V Output Voltage, 18-75V Input Voltage; ki_fp_filters: *TRACO*TEN20*xxxx*; Footprint: Converter_DCDC:Converter_DCDC_TRACO_TEN20-xxxx_THT; Supplier: http://www.tracopower.com/products/ten20win.pdf
footprint Converter_DCDC_TRACO_TEN20-xxxx_THT
pins: 1 VIN+ (power), 2 VIN- (power), 3 VOUT+ (power), 4 TRIM, 5 VOUT- (power), 6 ON/~{{OFF}} (in)

## TEN20-4813WIN
designator *  value TEN20-4813WIN
ki_keywords: Traco isolated DC/DC Converter module; ki_description: 1.33A Isolated DC/DC Converter Module, fixed 15V Output Voltage, 18-75V Input Voltage; ki_fp_filters: *TRACO*TEN20*xxxx*; Footprint: Converter_DCDC:Converter_DCDC_TRACO_TEN20-xxxx_THT; Supplier: http://www.tracopower.com/products/ten20win.pdf
footprint Converter_DCDC_TRACO_TEN20-xxxx_THT
pins: 1 VIN+ (power), 2 VIN- (power), 3 VOUT+ (power), 4 TRIM, 5 VOUT- (power), 6 ON/~{{OFF}} (in)

## TEN20-4821WIN
designator *  value TEN20-4821WIN
ki_keywords: Traco isolated DC/DC Converter module; ki_description: 2A Isolated DC/DC Dual Supply Converter Module, fixed +-5V Output Voltage, 18-75V Input Voltage; ki_fp_filters: *TRACO*TEN20*xxxx*; Footprint: Converter_DCDC:Converter_DCDC_TRACO_TEN20-xxxx_THT; Supplier: http://www.tracopower.com/products/ten20win.pdf
footprint Converter_DCDC_TRACO_TEN20-xxxx_THT
pins: 1 VIN+ (power), 2 VIN- (power), 3 VOUT+ (power), 4 CM (power), 5 VOUT- (power), 6 ON/~{{OFF}} (in)

## TEN20-4822WIN
designator *  value TEN20-4822WIN
ki_keywords: Traco isolated DC/DC Converter module; ki_description: 835mA Isolated DC/DC Dual Supply Converter Module, fixed +-12V Output Voltage, 18-75V Input Voltage; ki_fp_filters: *TRACO*TEN20*xxxx*; Footprint: Converter_DCDC:Converter_DCDC_TRACO_TEN20-xxxx_THT; Supplier: http://www.tracopower.com/products/ten20win.pdf
footprint Converter_DCDC_TRACO_TEN20-xxxx_THT
pins: 1 VIN+ (power), 2 VIN- (power), 3 VOUT+ (power), 4 CM (power), 5 VOUT- (power), 6 ON/~{{OFF}} (in)

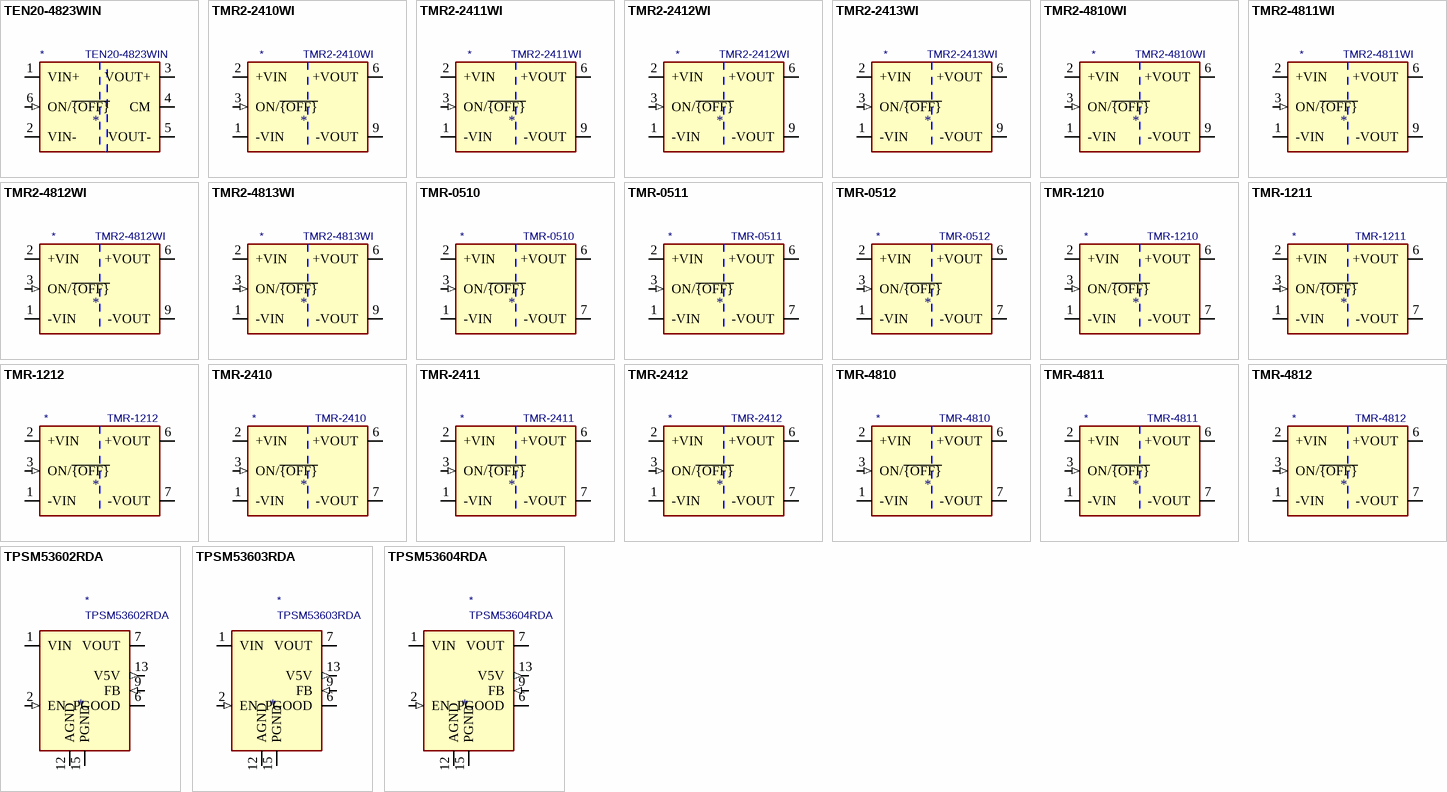
[diagram p13: symbols TEN20-4823WIN to TPSM53604RDA]

## TEN20-4823WIN
designator *  value TEN20-4823WIN
ki_keywords: Traco isolated DC/DC Converter module; ki_description: 665mA Isolated DC/DC Dual Supply Converter Module, fixed +-15V Output Voltage, 18-75V Input Voltage; ki_fp_filters: *TRACO*TEN20*xxxx*; Footprint: Converter_DCDC:Converter_DCDC_TRACO_TEN20-xxxx_THT; Supplier: http://www.tracopower.com/products/ten20win.pdf
footprint Converter_DCDC_TRACO_TEN20-xxxx_THT
pins: 1 VIN+ (power), 2 VIN- (power), 3 VOUT+ (power), 4 CM (power), 5 VOUT- (power), 6 ON/~{{OFF}} (in)

## TMR2-2410WI
designator *  value TMR2-2410WI
ki_keywords: Traco isolated isolation dc-dc converter transformer; ki_description: 500mA Regulated 2W DC/DC converter with 1.5kV isolation, 9V-36V input, 3.3V fixed Output Voltage, SIP-9; ki_fp_filters: Converter*DCDC*TRACO*TMR*2xxxxWI*; Footprint: Converter_DCDC:Converter_DCDC_TRACO_TMR-2xxxxWI_THT; Supplier: https://www.tracopower.com/products/tmr2wi.pdf
footprint Converter_DCDC_TRACO_TMR-2xxxxWI_THT
pins: 1 -VIN (power), 2 +VIN (power), 3 ON/~{{OFF}} (in), 6 +VOUT (power), 7 NC (in) hidden, 8 NC (in) hidden, 9 -VOUT (power)

## TMR2-2411WI
designator *  value TMR2-2411WI
ki_keywords: Traco isolated isolation dc-dc converter transformer; ki_description: 400mA Regulated 2W DC/DC converter with 1.5kV isolation, 9V-36V input, 5V fixed Output Voltage, SIP-9; ki_fp_filters: Converter*DCDC*TRACO*TMR*2xxxxWI*; Footprint: Converter_DCDC:Converter_DCDC_TRACO_TMR-2xxxxWI_THT; Supplier: https://www.tracopower.com/products/tmr2wi.pdf
footprint Converter_DCDC_TRACO_TMR-2xxxxWI_THT
pins: 1 -VIN (power), 2 +VIN (power), 3 ON/~{{OFF}} (in), 6 +VOUT (power), 7 NC (in) hidden, 8 NC (in) hidden, 9 -VOUT (power)

## TMR2-2412WI
designator *  value TMR2-2412WI
ki_keywords: Traco isolated isolation dc-dc converter transformer; ki_description: 165mA Regulated 2W DC/DC converter with 1.5kV isolation, 9V-36V input, 12V fixed Output Voltage, SIP-9; ki_fp_filters: Converter*DCDC*TRACO*TMR*2xxxxWI*; Footprint: Converter_DCDC:Converter_DCDC_TRACO_TMR-2xxxxWI_THT; Supplier: https://www.tracopower.com/products/tmr2wi.pdf
footprint Converter_DCDC_TRACO_TMR-2xxxxWI_THT
pins: 1 -VIN (power), 2 +VIN (power), 3 ON/~{{OFF}} (in), 6 +VOUT (power), 7 NC (in) hidden, 8 NC (in) hidden, 9 -VOUT (power)

## TMR2-2413WI
designator *  value TMR2-2413WI
ki_keywords: Traco isolated isolation dc-dc converter transformer; ki_description: 135mA Regulated 2W DC/DC converter with 1.5kV isolation, 9V-36V input, 15V fixed Output Voltage, SIP-9; ki_fp_filters: Converter*DCDC*TRACO*TMR*2xxxxWI*; Footprint: Converter_DCDC:Converter_DCDC_TRACO_TMR-2xxxxWI_THT; Supplier: https://www.tracopower.com/products/tmr2wi.pdf
footprint Converter_DCDC_TRACO_TMR-2xxxxWI_THT
pins: 1 -VIN (power), 2 +VIN (power), 3 ON/~{{OFF}} (in), 6 +VOUT (power), 7 NC (in) hidden, 8 NC (in) hidden, 9 -VOUT (power)

## TMR2-4810WI
designator *  value TMR2-4810WI
ki_keywords: Traco isolated isolation dc-dc converter transformer; ki_description: 500mA Regulated 2W DC/DC converter with 1.5kV isolation, 18V-75V input, 3.3V fixed Output Voltage, SIP-9; ki_fp_filters: Converter*DCDC*TRACO*TMR*2xxxxWI*; Footprint: Converter_DCDC:Converter_DCDC_TRACO_TMR-2xxxxWI_THT; Supplier: https://www.tracopower.com/products/tmr2wi.pdf
footprint Converter_DCDC_TRACO_TMR-2xxxxWI_THT
pins: 1 -VIN (power), 2 +VIN (power), 3 ON/~{{OFF}} (in), 6 +VOUT (power), 7 NC (in) hidden, 8 NC (in) hidden, 9 -VOUT (power)

## TMR2-4811WI
designator *  value TMR2-4811WI
ki_keywords: Traco isolated isolation dc-dc converter transformer; ki_description: 400mA Regulated 2W DC/DC converter with 1.5kV isolation, 18V-75V input, 5V fixed Output Voltage, SIP-9; ki_fp_filters: Converter*DCDC*TRACO*TMR*2xxxxWI*; Footprint: Converter_DCDC:Converter_DCDC_TRACO_TMR-2xxxxWI_THT; Supplier: https://www.tracopower.com/products/tmr2wi.pdf
footprint Converter_DCDC_TRACO_TMR-2xxxxWI_THT
pins: 1 -VIN (power), 2 +VIN (power), 3 ON/~{{OFF}} (in), 6 +VOUT (power), 7 NC (in) hidden, 8 NC (in) hidden, 9 -VOUT (power)

## TMR2-4812WI
designator *  value TMR2-4812WI
ki_keywords: Traco isolated isolation dc-dc converter transformer; ki_description: 165mA Regulated 2W DC/DC converter with 1.5kV isolation, 18V-75V input, 12V fixed Output Voltage, SIP-9; ki_fp_filters: Converter*DCDC*TRACO*TMR*2xxxxWI*; Footprint: Converter_DCDC:Converter_DCDC_TRACO_TMR-2xxxxWI_THT; Supplier: https://www.tracopower.com/products/tmr2wi.pdf
footprint Converter_DCDC_TRACO_TMR-2xxxxWI_THT
pins: 1 -VIN (power), 2 +VIN (power), 3 ON/~{{OFF}} (in), 6 +VOUT (power), 7 NC (in) hidden, 8 NC (in) hidden, 9 -VOUT (power)

## TMR2-4813WI
designator *  value TMR2-4813WI
ki_keywords: Traco isolated isolation dc-dc converter transformer; ki_description: 135mA Regulated 2W DC/DC converter with 1.5kV isolation, 18V-75V input, 15V fixed Output Voltage, SIP-9; ki_fp_filters: Converter*DCDC*TRACO*TMR*2xxxxWI*; Footprint: Converter_DCDC:Converter_DCDC_TRACO_TMR-2xxxxWI_THT; Supplier: https://www.tracopower.com/products/tmr2wi.pdf
footprint Converter_DCDC_TRACO_TMR-2xxxxWI_THT
pins: 1 -VIN (power), 2 +VIN (power), 3 ON/~{{OFF}} (in), 6 +VOUT (power), 7 NC (in) hidden, 8 NC (in) hidden, 9 -VOUT (power)

## TMR-0510
designator *  value TMR-0510
ki_keywords: Traco isolated isolation dc-dc converter transformer; ki_description: 500mA Regulated 2W DC/DC converter with 1.5kV isolation, 4.5V-9V input, 3.3V fixed Output Voltage, SIP-8; ki_fp_filters: Converter*DCDC*TRACO*TMR*xxxx*; Footprint: Converter_DCDC:Converter_DCDC_TRACO_TMR-xxxx_THT; Supplier: https://www.tracopower.com/products/tmr2.pdf
footprint Converter_DCDC_TRACO_TMR-xxxx_THT
pins: 1 -VIN (power), 2 +VIN (power), 3 ON/~{{OFF}} (in), 5 NC (in) hidden, 6 +VOUT (power), 7 -VOUT (power), 8 NC (in) hidden

## TMR-0511
designator *  value TMR-0511
ki_keywords: Traco isolated isolation dc-dc converter transformer; ki_description: 400mA Regulated 2W DC/DC converter with 1.5kV isolation, 4.5V-9V input, 5V fixed Output Voltage, SIP-8; ki_fp_filters: Converter*DCDC*TRACO*TMR*xxxx*; Footprint: Converter_DCDC:Converter_DCDC_TRACO_TMR-xxxx_THT; Supplier: https://www.tracopower.com/products/tmr2.pdf
footprint Converter_DCDC_TRACO_TMR-xxxx_THT
pins: 1 -VIN (power), 2 +VIN (power), 3 ON/~{{OFF}} (in), 5 NC (in) hidden, 6 +VOUT (power), 7 -VOUT (power), 8 NC (in) hidden

## TMR-0512
designator *  value TMR-0512
ki_keywords: Traco isolated isolation dc-dc converter transformer; ki_description: 165mA Regulated 2W DC/DC converter with 1.5kV isolation, 4.5V-9V input, 12V fixed Output Voltage, SIP-8; ki_fp_filters: Converter*DCDC*TRACO*TMR*xxxx*; Footprint: Converter_DCDC:Converter_DCDC_TRACO_TMR-xxxx_THT; Supplier: https://www.tracopower.com/products/tmr2.pdf
footprint Converter_DCDC_TRACO_TMR-xxxx_THT
pins: 1 -VIN (power), 2 +VIN (power), 3 ON/~{{OFF}} (in), 5 NC (in) hidden, 6 +VOUT (power), 7 -VOUT (power), 8 NC (in) hidden

## TMR-1210
designator *  value TMR-1210
ki_keywords: Traco isolated isolation dc-dc converter transformer; ki_description: 500mA Regulated 2W DC/DC converter with 1.5kV isolation, 9V-18V input, 3.3V fixed Output Voltage, SIP-8; ki_fp_filters: Converter*DCDC*TRACO*TMR*xxxx*; Footprint: Converter_DCDC:Converter_DCDC_TRACO_TMR-xxxx_THT; Supplier: https://www.tracopower.com/products/tmr2.pdf
footprint Converter_DCDC_TRACO_TMR-xxxx_THT
pins: 1 -VIN (power), 2 +VIN (power), 3 ON/~{{OFF}} (in), 5 NC (in) hidden, 6 +VOUT (power), 7 -VOUT (power), 8 NC (in) hidden

## TMR-1211
designator *  value TMR-1211
ki_keywords: Traco isolated isolation dc-dc converter transformer; ki_description: 400mA Regulated 2W DC/DC converter with 1.5kV isolation, 9V-18V input, 5V fixed Output Voltage, SIP-8; ki_fp_filters: Converter*DCDC*TRACO*TMR*xxxx*; Footprint: Converter_DCDC:Converter_DCDC_TRACO_TMR-xxxx_THT; Supplier: https://www.tracopower.com/products/tmr2.pdf
footprint Converter_DCDC_TRACO_TMR-xxxx_THT
pins: 1 -VIN (power), 2 +VIN (power), 3 ON/~{{OFF}} (in), 5 NC (in) hidden, 6 +VOUT (power), 7 -VOUT (power), 8 NC (in) hidden

## TMR-1212
designator *  value TMR-1212
ki_keywords: Traco isolated isolation dc-dc converter transformer; ki_description: 165mA Regulated 2W DC/DC converter with 1.5kV isolation, 9V-18V input, 12V fixed Output Voltage, SIP-8; ki_fp_filters: Converter*DCDC*TRACO*TMR*xxxx*; Footprint: Converter_DCDC:Converter_DCDC_TRACO_TMR-xxxx_THT; Supplier: https://www.tracopower.com/products/tmr2.pdf
footprint Converter_DCDC_TRACO_TMR-xxxx_THT
pins: 1 -VIN (power), 2 +VIN (power), 3 ON/~{{OFF}} (in), 5 NC (in) hidden, 6 +VOUT (power), 7 -VOUT (power), 8 NC (in) hidden

## TMR-2410
designator *  value TMR-2410
ki_keywords: Traco isolated isolation dc-dc converter transformer; ki_description: 500mA Regulated 2W DC/DC converter with 1.5kV isolation, 18V-36V input, 3.3V fixed Output Voltage, SIP-8; ki_fp_filters: Converter*DCDC*TRACO*TMR*xxxx*; Footprint: Converter_DCDC:Converter_DCDC_TRACO_TMR-xxxx_THT; Supplier: https://www.tracopower.com/products/tmr2.pdf
footprint Converter_DCDC_TRACO_TMR-xxxx_THT
pins: 1 -VIN (power), 2 +VIN (power), 3 ON/~{{OFF}} (in), 5 NC (in) hidden, 6 +VOUT (power), 7 -VOUT (power), 8 NC (in) hidden

## TMR-2411
designator *  value TMR-2411
ki_keywords: Traco isolated isolation dc-dc converter transformer; ki_description: 400mA Regulated 2W DC/DC converter with 1.5kV isolation, 18V-36V input, 5V fixed Output Voltage, SIP-8; ki_fp_filters: Converter*DCDC*TRACO*TMR*xxxx*; Footprint: Converter_DCDC:Converter_DCDC_TRACO_TMR-xxxx_THT; Supplier: https://www.tracopower.com/products/tmr2.pdf
footprint Converter_DCDC_TRACO_TMR-xxxx_THT
pins: 1 -VIN (power), 2 +VIN (power), 3 ON/~{{OFF}} (in), 5 NC (in) hidden, 6 +VOUT (power), 7 -VOUT (power), 8 NC (in) hidden

## TMR-2412
designator *  value TMR-2412
ki_keywords: Traco isolated isolation dc-dc converter transformer; ki_description: 165mA Regulated 2W DC/DC converter with 1.5kV isolation, 18V-36V input, 12V fixed Output Voltage, SIP-8; ki_fp_filters: Converter*DCDC*TRACO*TMR*xxxx*; Footprint: Converter_DCDC:Converter_DCDC_TRACO_TMR-xxxx_THT; Supplier: https://www.tracopower.com/products/tmr2.pdf
footprint Converter_DCDC_TRACO_TMR-xxxx_THT
pins: 1 -VIN (power), 2 +VIN (power), 3 ON/~{{OFF}} (in), 5 NC (in) hidden, 6 +VOUT (power), 7 -VOUT (power), 8 NC (in) hidden

## TMR-4810
designator *  value TMR-4810
ki_keywords: Traco isolated isolation dc-dc converter transformer; ki_description: 500mA Regulated 2W DC/DC converter with 1.5kV isolation, 36V-75V input, 3.3V fixed Output Voltage, SIP-8; ki_fp_filters: Converter*DCDC*TRACO*TMR*xxxx*; Footprint: Converter_DCDC:Converter_DCDC_TRACO_TMR-xxxx_THT; Supplier: https://www.tracopower.com/products/tmr2.pdf
footprint Converter_DCDC_TRACO_TMR-xxxx_THT
pins: 1 -VIN (power), 2 +VIN (power), 3 ON/~{{OFF}} (in), 5 NC (in) hidden, 6 +VOUT (power), 7 -VOUT (power), 8 NC (in) hidden

## TMR-4811
designator *  value TMR-4811
ki_keywords: Traco isolated isolation dc-dc converter transformer; ki_description: 400mA Regulated 2W DC/DC converter with 1.5kV isolation, 36V-75V input, 5V fixed Output Voltage, SIP-8; ki_fp_filters: Converter*DCDC*TRACO*TMR*xxxx*; Footprint: Converter_DCDC:Converter_DCDC_TRACO_TMR-xxxx_THT; Supplier: https://www.tracopower.com/products/tmr2.pdf
footprint Converter_DCDC_TRACO_TMR-xxxx_THT
pins: 1 -VIN (power), 2 +VIN (power), 3 ON/~{{OFF}} (in), 5 NC (in) hidden, 6 +VOUT (power), 7 -VOUT (power), 8 NC (in) hidden

## TMR-4812
designator *  value TMR-4812
ki_keywords: Traco isolated isolation dc-dc converter transformer; ki_description: 165mA Regulated 2W DC/DC converter with 1.5kV isolation, 36V-75V input, 12V fixed Output Voltage, SIP-8; ki_fp_filters: Converter*DCDC*TRACO*TMR*xxxx*; Footprint: Converter_DCDC:Converter_DCDC_TRACO_TMR-xxxx_THT; Supplier: https://www.tracopower.com/products/tmr2.pdf
footprint Converter_DCDC_TRACO_TMR-xxxx_THT
pins: 1 -VIN (power), 2 +VIN (power), 3 ON/~{{OFF}} (in), 5 NC (in) hidden, 6 +VOUT (power), 7 -VOUT (power), 8 NC (in) hidden

## TPSM53602RDA
designator *  value TPSM53602RDA
ki_keywords: step down DCDC converter regulator; ki_description: 36-V, 2A input, stepdown, DC/DC converter, Texas B3QFN-14; ki_fp_filters: Texas*B3QFN*1EP*5x5.5mm*P0.65mm*; Footprint: Package_DFN_QFN:Texas_B3QFN-14-1EP_5x5.5mm_P0.65mm_ThermalVia; Supplier: https://www.ti.com/lit/ds/symlink/tpsm53602.pdf
footprint Texas_B3QFN-14-1EP_5x5.5mm_P0.65mm_ThermalVia
pins: 1 VIN (power), 2 EN (in), 3 PGND hidden, 4 DNC (in) hidden, 5 DNC (in) hidden, 6 PGOOD (oc), 7 VOUT (power), 8 VOUT hidden, 9 FB (in), 10 PGND hidden, 11 PGND hidden, 12 AGND (power), 13 V5V (out), 14 VIN hidden, 15 PGND (power)

## TPSM53603RDA
designator *  value TPSM53603RDA
ki_keywords: step down DCDC converter regulator; ki_description: 36-V, 3A input, stepdown, DC/DC converter, Texas B3QFN-14; ki_fp_filters: Texas*B3QFN*1EP*5x5.5mm*P0.65mm*; Footprint: Package_DFN_QFN:Texas_B3QFN-14-1EP_5x5.5mm_P0.65mm_ThermalVia; Supplier: https://www.ti.com/lit/ds/symlink/tpsm53603.pdf
footprint Texas_B3QFN-14-1EP_5x5.5mm_P0.65mm_ThermalVia
pins: 1 VIN (power), 2 EN (in), 3 PGND hidden, 4 DNC (in) hidden, 5 DNC (in) hidden, 6 PGOOD (oc), 7 VOUT (power), 8 VOUT hidden, 9 FB (in), 10 PGND hidden, 11 PGND hidden, 12 AGND (power), 13 V5V (out), 14 VIN hidden, 15 PGND (power)

## TPSM53604RDA
designator *  value TPSM53604RDA
ki_keywords: step down DCDC converter regulator; ki_description: 36-V, 4A input, stepdown, DC/DC converter, Texas B3QFN-14; ki_fp_filters: Texas*B3QFN*1EP*5x5.5mm*P0.65mm*; Footprint: Package_DFN_QFN:Texas_B3QFN-14-1EP_5x5.5mm_P0.65mm_ThermalVia; Supplier: https://www.ti.com/lit/ds/symlink/tpsm53604.pdf
footprint Texas_B3QFN-14-1EP_5x5.5mm_P0.65mm_ThermalVia
pins: 1 VIN (power), 2 EN (in), 3 PGND hidden, 4 DNC (in) hidden, 5 DNC (in) hidden, 6 PGOOD (oc), 7 VOUT (power), 8 VOUT hidden, 9 FB (in), 10 PGND hidden, 11 PGND hidden, 12 AGND (power), 13 V5V (out), 14 VIN hidden, 15 PGND (power)